# EAGLE library part LTC4002 (library mcp3424)
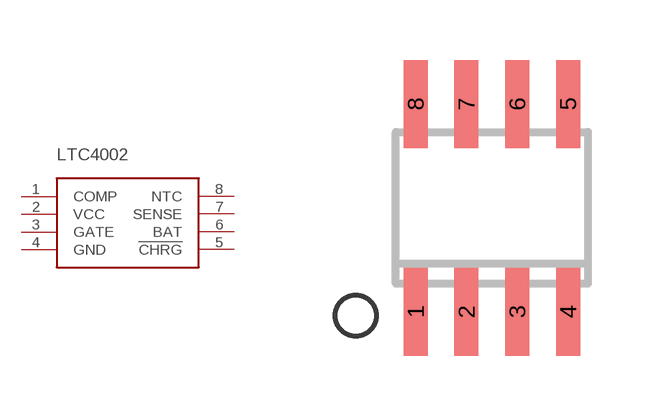
[diagram p4: symbol with the pads of SO8; footprint SO8]

Designator prefix -

## LTC4002  [SO8]
1  COMP
2  VCC
3  GATE
4  GND
5  !CHRG
6  BAT
7  SENSE
8  NTC

## Footprint SO8 (pad centres in mm)
SMALL OUTLINE INTEGRATED CIRCUIT
smd 0.6 x 2.2: 1 -1.905,-2.6; 2 -0.635,-2.6; 3 0.635,-2.6; 4 1.905,-2.6; 5 1.905,2.6; 6 0.635,2.6; 7 -0.635,2.6; 8 -1.905,2.6